# Altium schematic symbol library 4.9 - 0.5mm连接器(FPC0.5).SchLib: 6 symbols
Pins are listed as number, name and electrical type; pins without a type are passive.

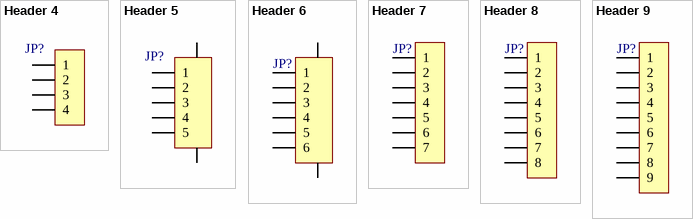
[diagram p0: symbols Header 4 to Header 9]

## Header 4
designator JP?, comment CON-4P  (value not drawn)
4P连接器; 封装库来自淘宝卖家ID：黄晶宝石: 唯一出售店铺网址https://shop463601444.taobao.com; 联系卖家 免费查找封装: 封装库来自淘宝卖家ID：黄晶宝石; BOM名称: 4P连接器; 联系卖家 免费技术支持: 封装库来自淘宝卖家ID：黄晶宝石
footprint FPC0.5-WT-4P (长：6.2mm，宽：5.2mm，高：2mm)
pins: 1, 2, 3, 4

## Header 5
designator JP?, comment CON-5P  (value not drawn)
5P连接器; 封装库来自淘宝卖家ID：黄晶宝石: 唯一出售店铺网址https://shop463601444.taobao.com; 联系卖家 免费查找封装: 封装库来自淘宝卖家ID：黄晶宝石; BOM名称: 5P连接器; 联系卖家 免费技术支持: 封装库来自淘宝卖家ID：黄晶宝石
footprint FPC0.5-WT-5P (长：6.7mm，宽：5.2mm，高：2mm)
pins: 0, 0, 1, 2, 3, 4, 5

## Header 6
designator JP?, comment CON-6P  (value not drawn)
6P连接器; 封装库来自淘宝卖家ID：黄晶宝石: 唯一出售店铺网址https://shop463601444.taobao.com; 联系卖家 免费查找封装: 封装库来自淘宝卖家ID：黄晶宝石; BOM名称: 6P连接器; 联系卖家 免费技术支持: 封装库来自淘宝卖家ID：黄晶宝石
footprint FPC0.5-WT-6P (长：7.2mm，宽：5.2mm，高：2mm)
pins: 0, 0, 1, 2, 3, 4, 5, 6

## Header 7
designator JP?, comment CON-6P  (value not drawn)
7P连接器; 封装库来自淘宝卖家ID：黄晶宝石: 唯一出售店铺网址https://shop463601444.taobao.com; 联系卖家 免费查找封装: 封装库来自淘宝卖家ID：黄晶宝石; BOM名称: 7P连接器; 联系卖家 免费技术支持: 封装库来自淘宝卖家ID：黄晶宝石
footprint FPC0.5-WT-7P (长：7.7mm，宽：5.2mm，高：2mm)
pins: 1, 2, 3, 4, 5, 6, 7

## Header 8
designator JP?, comment CON-8P  (value not drawn)
8P连接器; 封装库来自淘宝卖家ID：黄晶宝石: 唯一出售店铺网址https://shop463601444.taobao.com; 联系卖家 免费查找封装: 封装库来自淘宝卖家ID：黄晶宝石; BOM名称: 8P连接器; 联系卖家 免费技术支持: 封装库来自淘宝卖家ID：黄晶宝石
footprint FPC0.5-WT-8P (长：8.2mm，宽：5.2mm，高：2mm 淘宝ID:黄晶宝石   店铺网址:https://shop463601444.taobao.com)
pins: 1, 2, 3, 4, 5, 6, 7, 8

## Header 9
designator JP?, comment CON-9P  (value not drawn)
9P连接器; 封装库来自淘宝卖家ID：黄晶宝石: 唯一出售店铺网址https://shop463601444.taobao.com; 联系卖家 免费查找封装: 封装库来自淘宝卖家ID：黄晶宝石; BOM名称: 9P连接器; 联系卖家 免费技术支持: 封装库来自淘宝卖家ID：黄晶宝石
footprint FPC0.5-WT-9P (长：8.7mm，宽：5.2mm，高：2mm)
pins: 1, 2, 3, 4, 5, 6, 7, 8, 9